# EAGLE library part CP2102N-A02-GQFN28R (library CP2102N-A02-GQFN28R)
USB Interface IC USB to UART bridge - QFN28 Source: Datasheet <https://www.silabs.com/documents/public/data-sheets/cp2102n-datasheet.pdf>
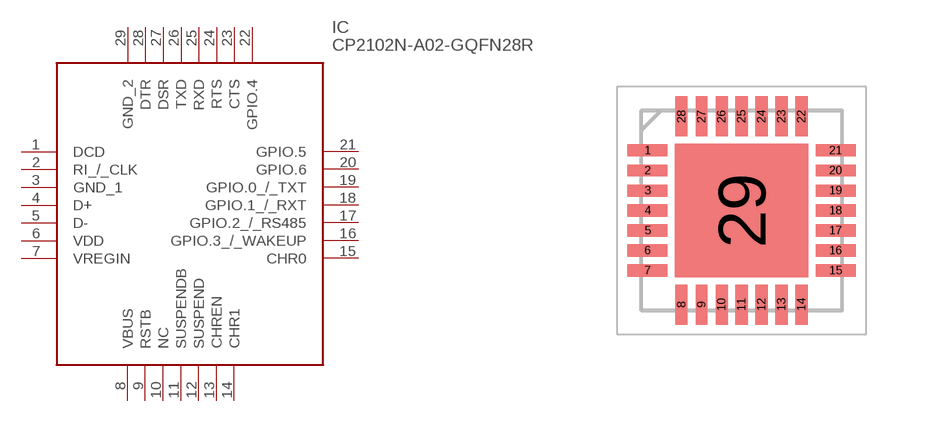
[diagram p0: symbol with the pads of QFN50P500X500X80-29N; footprint QFN50P500X500X80-29N]

Designator prefix IC

## CP2102N-A02-GQFN28R (Arrow_Part_Number: CP2102N-A02-GQFN28R; Arrow_Price-Stock: https://www.arrow.com/en/products/cp2102n-a02-gqfn28r/silicon-labs?region=nac; Description: USB Interface IC USB to UART bridge - QFN28; Height: 0.8mm; Manufacturer_Name: Silicon Labs; Manufacturer_Part_Number: CP2102N-A02-GQFN28R; Mouser_Part_Number: 634-CP2102NA02QFN28R; Mouser_Price-Stock: https://www.mouser.co.uk/ProductDetail/Silicon-Labs/CP2102N-A02-GQFN28R?qs=u16ybLDytRag4qKvSH3fTw%3D%3D)  [QFN50P500X500X80-29N]
1  DCD
2  RI_/_CLK
3  GND_1
4  D+
5  D-
6  VDD
7  VREGIN
8  VBUS
9  RSTB
10  NC  nc
11  SUSPENDB
12  SUSPEND
13  CHREN
14  CHR1
15  CHR0
16  GPIO.3_/_WAKEUP
17  GPIO.2_/_RS485
18  GPIO.1_/_RXT
19  GPIO.0_/_TXT
20  GPIO.6
21  GPIO.5
22  GPIO.4
23  CTS
24  RTS
25  RXD
26  TXD
27  DSR
28  DTR
29  GND_2

## Footprint QFN50P500X500X80-29N (pad centres in mm)
qfd
smd 1 x 0.3: 1 -2.35,1.5; 2 -2.35,1; 3 -2.35,0.5; 4 -2.35,0; 5 -2.35,-0.5; 6 -2.35,-1; 7 -2.35,-1.5; 15 2.35,-1.5; 16 2.35,-1; 17 2.35,-0.5; 18 2.35,0; 19 2.35,0.5; 20 2.35,1; 21 2.35,1.5
smd 0.3 x 1: 8 -1.5,-2.35; 9 -1,-2.35; 10 -0.5,-2.35; 11 0,-2.35; 12 0.5,-2.35; 13 1,-2.35; 14 1.5,-2.35; 22 1.5,2.35; 23 1,2.35; 24 0.5,2.35; 25 0,2.35; 26 -0.5,2.35; 27 -1,2.35; 28 -1.5,2.35
smd 3.35 x 3.35: 29 0,0